# EAGLE library part IDT82V2081 (library laforge)
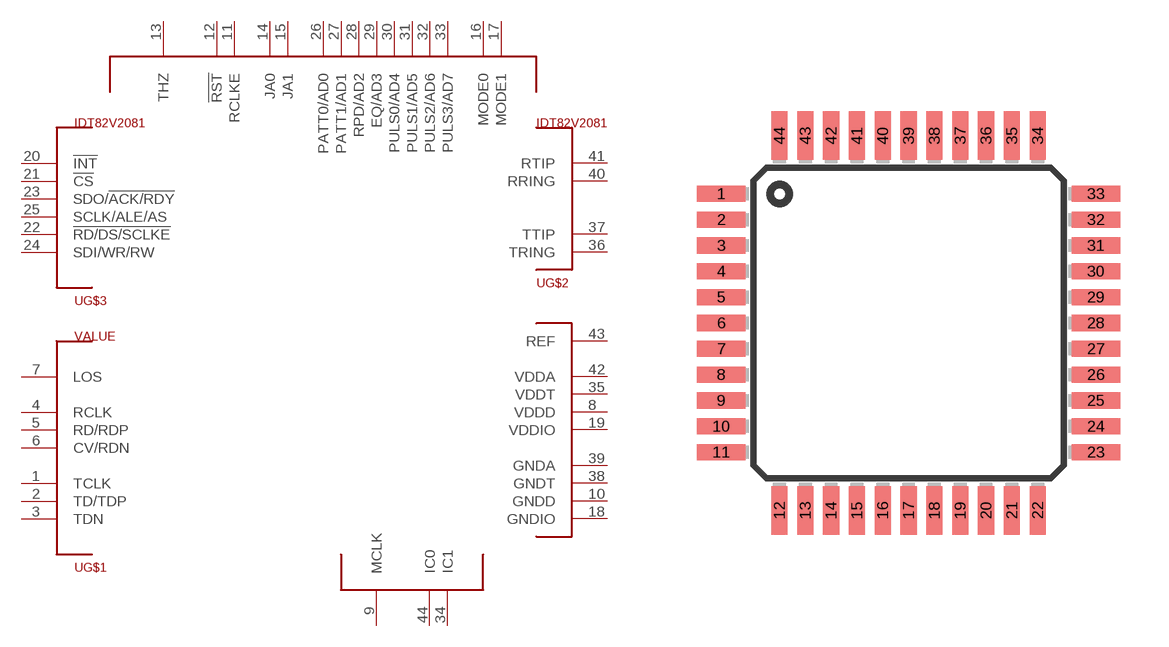
[diagram p3: symbol with the pads of TQFP44; footprint TQFP44]

Designator prefix -; gates G$1=IDT82V2081_TDM G$2=IDT82V2081_LINE G$3=IDT82V2081_SERIAL G$4=IDT82V2081_PINCTRL G$5=IDT82V2081_V G$6=IDT82V2081_MISC

## IDT82V2081 (OC_DIGIKEY: 800-2347-ND)  [TQFP44]
1  G$1:TCLK  in
2  G$1:TD/TDP  in
3  G$1:TDN  in
4  G$1:RCLK  out
5  G$1:RD/RDP  out
6  G$1:CV/RDN  out
7  G$1:LOS  out
8  G$5:VDDD  pwr
9  G$6:MCLK  pwr
10  G$5:GNDD  pwr
11  G$4:RCLKE  in
12  G$4:!RST  in
13  G$4:THZ  in
14  G$4:JA0  in
15  G$4:JA1  in
16  G$4:MODE0  in
17  G$4:MODE1  in
18  G$5:GNDIO  pwr
19  G$5:VDDIO  pwr
20  G$3:!INT  out
21  G$3:!CS  in
22  G$3:!RD/DS/SCLKE  in
23  G$3:SDO/!ACK/RDY  out
24  G$3:SDI/WR/RW  in
25  G$3:SCLK/ALE/AS  in
26  G$4:PATT0/AD0  in
27  G$4:PATT1/AD1  in
28  G$4:RPD/AD2  in
29  G$4:EQ/AD3  in
30  G$4:PULS0/AD4  in
31  G$4:PULS1/AD5  in
32  G$4:PULS2/AD6  in
33  G$4:PULS3/AD7  in
34  G$6:IC1  nc
35  G$5:VDDT  pwr
36  G$2:TRING  out
37  G$2:TTIP  out
38  G$5:GNDT  pwr
39  G$5:GNDA  pwr
40  G$2:RRING  in
41  G$2:RTIP  in
42  G$5:VDDA  pwr
43  G$5:REF  in
44  G$6:IC0  nc

## Footprint TQFP44 (pad centres in mm)
Thin Quad Flat Pack package type TQ
smd 1.5 x 0.5: 1 -5.8,4; 2 -5.8,3.2; 3 -5.8,2.4; 4 -5.8,1.6; 5 -5.8,0.8; 6 -5.8,0; 7 -5.8,-0.8; 8 -5.8,-1.6; 9 -5.8,-2.4; 10 -5.8,-3.2; 11 -5.8,-4; 23 5.8,-4; 24 5.8,-3.2; 25 5.8,-2.4; 26 5.8,-1.6; 27 5.8,-0.8; 28 5.8,0; 29 5.8,0.8; 30 5.8,1.6; 31 5.8,2.4; 32 5.8,3.2; 33 5.8,4
smd 0.5 x 1.5: 12 -4,-5.8; 13 -3.2,-5.8; 14 -2.4,-5.8; 15 -1.6,-5.8; 16 -0.8,-5.8; 17 0,-5.8; 18 0.8,-5.8; 19 1.6,-5.8; 20 2.4,-5.8; 21 3.2,-5.8; 22 4,-5.8; 34 4,5.8; 35 3.2,5.8; 36 2.4,5.8; 37 1.6,5.8; 38 0.8,5.8; 39 0,5.8; 40 -0.8,5.8; 41 -1.6,5.8; 42 -2.4,5.8; 43 -3.2,5.8; 44 -4,5.8